# EAGLE library part TPS6103X (library m_vreg)
TPS6103x 96% Efficient Synchronous Boost Converter With 4A Switch Description The TPS6103x devices provide a power supply solution for products powered by either a one-cell Li-Ion or Li-polymer, or a two to three-cell alkaline, NiCd or NiMH battery. The converter generates a stable output voltage that is either adjusted by an external resistor divider or fixed internally on the chip. It provides high efficient power conversion and is capable of delivering output currents up to 1 A at 5 V at a supply voltage down to 1.8 V. The implemented boost converter is based on a fixed frequency, pulse-width- modulation (PWM) controller using a synchronous rectifier to obtain maximum efficiency. At low load currents the converter enters Power Save mode to maintain a high efficiency over a wide load current range. The Power Save mode can be disabled, forcing the converter to operate at a fixed switching frequency. It can also operate synchronized to an external clock signal that is applied to the SYNC pin. The maximum peak current in the boost switch is limited to a value of 4500 mA. The converter can be disabled to minimize battery drain. During shutdown, the load is completely disconnected from the battery. A low-EMI mode is implemented to reduce ringing and, in effect, lower radiated electromagnetic energy when the converter enters the discontinuous conduction mode. Features 96% Efficient Synchronous Boost Converter With 1000-mA Output Current From 1.8-V Input Device Quiescent Current: 20-µA (Typ) Input Voltage Range: 1.8-V to 5.5-V Fixed and Adjustable Output Voltage Options Up to 5.5-V Power Save Mode for Improved Efficiency at Low Output Power Low Battery Comparator Low EMI-Converter (Integrated Antiringing Switch) Load Disconnect During Shutdown Over-Temperature Protection Available in a Small 4 mm × 4 mm QFN-16 or in a TSSOP-16 Package Octopart Link <https://octopart.com/search?q=TPS6103%3FRSA*> Added 2018-08-15 TI Document SLUS534G, September 2001, Revised March 2015
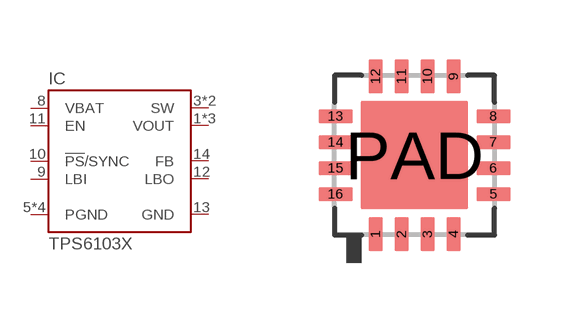
[diagram p14: symbol with the pads of S-PVQFN-N16; footprint S-PVQFN-N16]

Designator prefix IC

## TPS6103XRSA (MANUF: TI; PARTNUM: TPS6103?RSA*; VALUE: TPS6103X)  [S-PVQFN-N16]
1  VOUT  pas
3  SW  pas
4  SW  pas
5  PGND  pas
6  PGND  pas
7  PGND  pas
8  VBAT  pas
9  LBI  pas
10  !PS!/SYNC  pas
11  EN  pas
12  LBO  pas
13  GND  pas
14  FB  pas
15  VOUT  pas
16  VOUT  pas
PAD  PGND  pas

## Footprint S-PVQFN-N16 (pad centres in mm)
TI S-PVQFN-N16 Plastic Quad Flatpack No-Lead Package Data from TI drawing 4207807/G 09/15 Suggested soldermask clearance 0.07mm
smd 0.35 x 0.85: 1 -0.975,-1.975; 2 -0.325,-1.975; 3 0.325,-1.975; 4 0.975,-1.975; 9 0.975,1.975; 10 0.325,1.975; 11 -0.325,1.975; 12 -0.975,1.975
smd 0.85 x 0.35: 5 1.975,-0.975; 6 1.975,-0.325; 7 1.975,0.325; 8 1.975,0.975; 13 -1.975,0.975; 14 -1.975,0.325; 15 -1.975,-0.325; 16 -1.975,-0.975
smd 2.7 x 2.7: PAD 0,0